# Altium footprint library IQD Quartz Crystals 12SMX.PcbLib: 1 footprints
Each footprint in its own frame and in the unit in brackets; x right, y up, seen from the top. Pads: shape width x height; smd on the part's side, far side on the other; paste and mask are expansions set on the pad; w line width, h text height; cw(c..) or ccw(c..) is an arc to the next point about the centre after c.
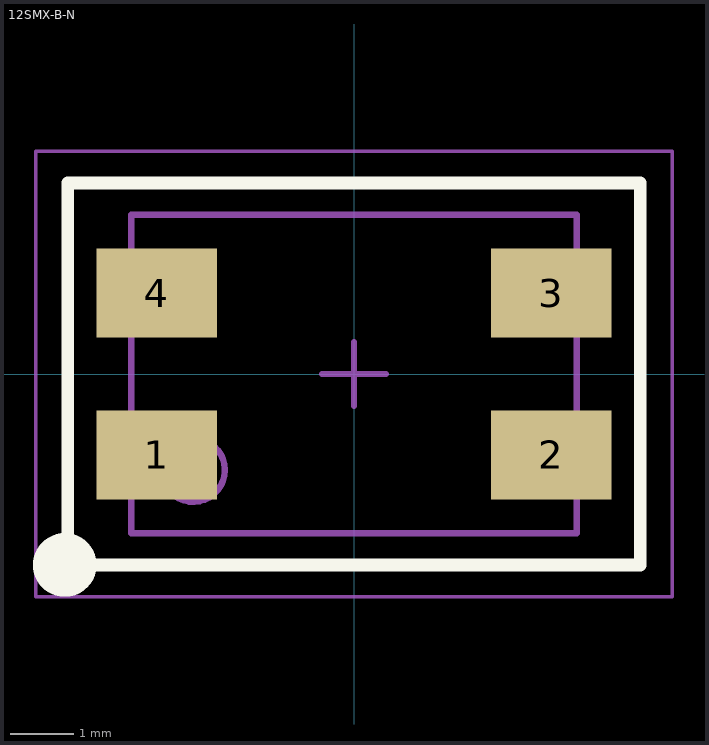
[diagram p0: the footprint, top view; thin cyan lines are the x and y axes]

## 12SMX-B-N [mm] "SMD 4-Pin, Body 7x5mm, IPC Medium Density"
height 0.6
pads (4):
  rect 1.9x1.4 smd: 1(-3.1,-1.27) 2(3.1,-1.27) 3(3.1,1.27) 4(-3.1,1.27)
Top Overlay:
  circle w0.8: c-4.545,-3 r0.1
  lines w0.2: -4.5,-3 -4.5,3 ; -4.445,-3 4.445,-3 ; -4.445,3 4.445,3 ; 4.5,-3 4.5,3
Mechanical 13:
  circle w0.1: c-2.529,-1.51 r0.5
  lines w0.1: -3.5,-2.5 -3.5,2.5 3.5,2.5 3.5,-2.5 -3.5,-2.5
Mechanical 15:
  lines w0.05: -5,-3.5 -5,3.5 5,3.5 5,-3.5 -5,-3.5
  lines w0.1: -0.5,0 0.5,0 ; 0,-0.5 0,0.5
3D body: height 0.6, standoff 0.01, extent -3.5,-2.5 3.5,2.5